# Altium footprint library Global_Footprints.PcbLib: 11 footprints
Each footprint in its own frame and in the unit in brackets; x right, y up, seen from the top. Pads: shape width x height; smd on the part's side, far side on the other; paste and mask are expansions set on the pad; w line width, h text height; cw(c..) or ccw(c..) is an arc to the next point about the centre after c.
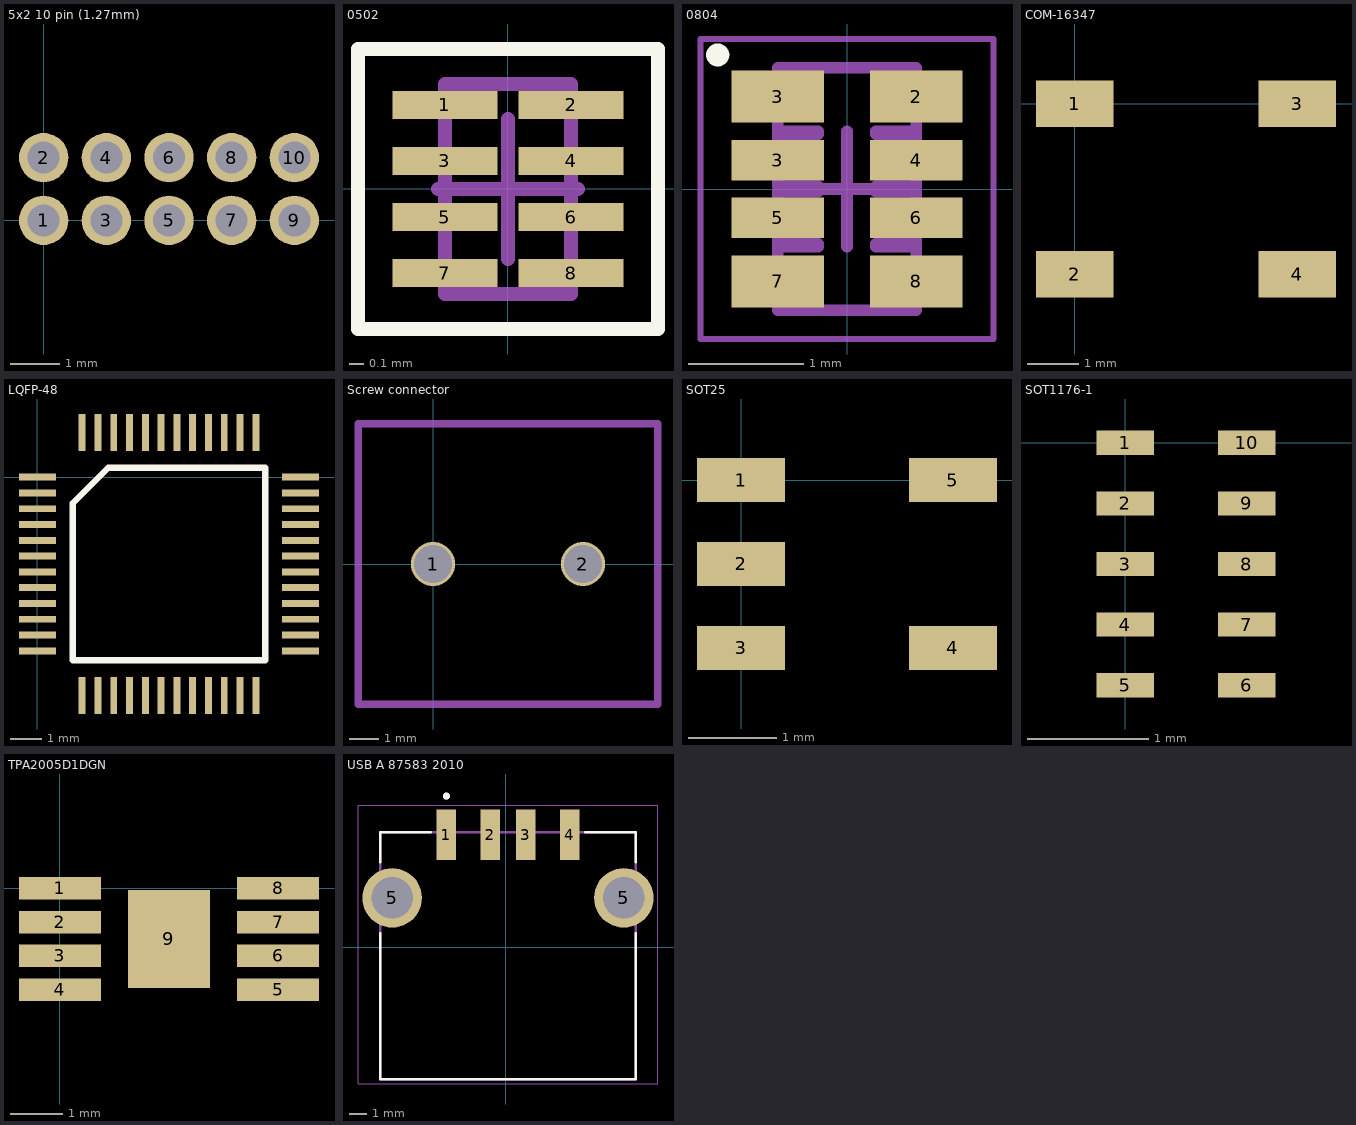
[diagram p0: the footprints below, top view; thin cyan lines are the x and y axes]

## 5x2 10 pin (1.27mm) [mm]
pads (10):
  round 1 hole 0.65 mask+0.05: 1(0,0) 2(0,1.27) 3(1.27,0) 4(1.27,1.27) 5(2.54,0) 6(2.54,1.27) 7(3.81,0) 8(3.81,1.27) 9(5.08,0) 10(5.08,1.27)
3D body "M50-3500542.step": height 4, standoff -2.3, extent -0.635,-1.065 5.715,2.335

## 0502 [mm] "Resistor Array, Flat, 8-Leads, Pitch 0.40mm,  Body 1.40x0.60mm,  IPC Medium Density"
height 0.45
pads (8):
  rect 0.75x0.2 smd mask+0.05: 1(-0.45,0.6) 2(0.45,0.6) 3(-0.45,0.2) 4(0.45,0.2) 5(-0.45,-0.2) 6(0.45,-0.2) 7(-0.45,-0.6) 8(0.45,-0.6)
Top Overlay:
  lines w0.1: -1.07,-1 1.07,-1 1.07,1 -1.07,1 -1.07,-1
Mechanical 13:
  lines w0.1: -0.45,-0.75 0.45,-0.75 0.45,0.75 -0.45,0.75 -0.45,-0.75
Mechanical 15:
  lines w0.05: -1.07,-1 1.07,-1 1.07,1 -1.07,1 -1.07,-1
  lines w0.1: -0.5,0 0.5,0 ; 0,-0.5 0,0.5
3D body "CAF-40P140X60-8N.step": height 0.45, standoff 0, extent -0.4,-0.75 0.4,0.75

## 0804 [mm] "Chip Array, ConvexS, 8-Leads, Pitch 0.50mm,  Body 2.00x1.00mm,  IPC Medium Density"
height 0.45
pads (8):
  rect 0.8x0.45 smd mask+0: 2(0.6,0.8) 3(-0.6,0.8) 7(-0.6,-0.8) 8(0.6,-0.8)
  rect 0.8x0.35 smd mask+0: 3(-0.6,0.25) 4(0.6,0.25) 5(-0.6,-0.25) 6(0.6,-0.25)
Top Overlay:
  circle w0.1: c-1.12,1.162 r0.05
Mechanical 13:
  lines w0.1: -0.6,-1.05 -0.6,-0.5 -0.25,-0.5 -0.25,-0.475 -0.6,-0.475 -0.6,-0.025 -0.25,-0.025 -0.25,0.025 -0.6,0.025 -0.6,0.475 -0.25,0.475 -0.25,0.5 -0.6,0.5 -0.6,1.05 0.6,1.05 0.6,0.5 0.25,0.5 0.25,0.475 0.6,0.475 0.6,0.025 0.25,0.025 0.25,-0.025 0.6,-0.025 0.6,-0.475 0.25,-0.475 0.25,-0.5 0.6,-0.5 0.6,-1.05 -0.6,-1.05
Mechanical 15:
  lines w0.05: -1.27,-1.3 -1.27,1.3 1.27,1.3 1.27,-1.3 -1.27,-1.3
  lines w0.1: -0.5,0 0.5,0 ; 0,-0.5 0,0.5
3D body "CAC-50P200X100-8N.step": height 0.45, standoff 0, extent -0.6,-1.05 0.6,1.05

## COM-16347 [mm]
pads (4):
  rect 1.5x0.9 smd: 1(0,0) 2(0,-3.3) 3(4.3,0) 4(4.3,-3.3)
3D body "COM-16347_SPK.step": height 1.6, standoff 0, extent -0.554,-4.152 4.856,0.852

## LQFP-48 [mm]
pads (48):
  rect 1.168x0.22 smd mask+0.05: 1(0,0) 2(0,-0.5) 3(0,-1) 4(0,-1.5) 5(0,-2) 6(0,-2.5) 7(0,-3) 8(0,-3.5) 9(0,-4) 10(0,-4.5) 11(0,-5) 12(0,-5.5) 25(8.332,-5.5) 26(8.332,-5) 27(8.332,-4.5) 28(8.332,-4) 29(8.332,-3.5) 30(8.332,-3) 31(8.332,-2.5) 32(8.332,-2) 33(8.332,-1.5) 34(8.332,-1) 35(8.332,-0.5) 36(8.332,0)
  rect 0.22x1.168 smd mask+0.05: 13(1.416,-6.916) 14(1.916,-6.916) 15(2.416,-6.916) 16(2.916,-6.916) 17(3.416,-6.916) 18(3.916,-6.916) 19(4.416,-6.916) 20(4.916,-6.916) 21(5.416,-6.916) 22(5.916,-6.916) 23(6.416,-6.916) 24(6.916,-6.916) 37(6.916,1.416) 38(6.416,1.416) 39(5.916,1.416) 40(5.416,1.416) 41(4.916,1.416) 42(4.416,1.416) 43(3.916,1.416) 44(3.416,1.416) 45(2.916,1.416) 46(2.416,1.416) 47(1.916,1.416) 48(1.416,1.416)
Top Overlay:
  lines w0.2: 1.119,-5.797 7.213,-5.797 7.213,0.297 2.238,0.297 1.119,-0.822 1.119,-5.797
3D body "LQFP48_1_STM.step": height 1.6, standoff 0, extent -0.422,-7.352 8.772,1.842

## Screw connector [mm]
pads (2):
  round 1.5 hole 1.3: 1(0,0) 2(5.08,0)
Mechanical 13:
  lines w0.254: -2.54,-4.75 7.62,-4.75 7.62,4.75 -2.54,4.75 -2.54,-4.75
3D body "1888687.step": height 15.15, standoff -3.7, extent -3.09,-4.735 7.89,4.765

## SOT25 [mm]
pads (5):
  rect 1x0.5 smd mask+0.05: 1(0,0) 2(0,-0.95) 3(0,-1.9) 4(2.4,-1.9) 5(2.4,0)
3D body "XC6210B332MR-G.step": height 1.3, standoff 0, extent -0.2,-2.417 2.6,0.483

## SOT1176-1 [mm]
pads (10):
  rect 0.475x0.2 smd mask+0.05: 1(0,0) 2(0,-0.5) 3(0,-1) 4(0,-1.5) 5(0,-2) 6(1,-2) 7(1,-1.5) 8(1,-1) 9(1,-0.5) 10(1,0)
3D body "PUSB3AB4Z.STEP": height 0.5, standoff 0, extent 0,-2.25 1,0.25

## TDFN22 [mm]

## TPA2005D1DGN [mil]
pads (9):
  rect 62x17 smd mask+1.97: 1(0,0) 2(0,-25.59) 3(0,-51.18) 4(0,-76.77) 5(165,-76.77) 6(165,-51.18) 7(165,-25.59) 8(165,0)
  rect 61.81x74.41 smd mask+1.97: 9(82.46,-38.39)
3D body "DGN0008G.stp": height 41.34, standoff -0.79, extent -14,-97.44 178.92,20.67

## USB A 87583 2010 [mm]
pads (6):
  rect 1.12x2.88 smd mask+0.05: 1(-3.373,6.374) 2(-0.873,6.374) 3(1.127,6.374) 4(3.627,6.374)
  round 3.376 hole 2.36 mask+0.05: 5(-6.443,2.794) 5(6.697,2.794)
Top Overlay:
  circle w0.2: c-3.373,8.564 r0.1
  lines w0.127: -7.123,0.786 -7.123,-7.486 7.377,-7.486 7.377,0.786 ; -7.123,4.802 -7.123,6.514 -4.253,6.514 ; 4.507,6.514 7.377,6.514 7.377,4.802
Mechanical 13:
  circle w0.2: c-3.373,8.564 r0.1
  lines w0.127: -7.123,-7.486 -7.123,6.514 7.377,6.514 7.377,-7.486 -7.123,-7.486
Mechanical 15:
  lines w0.05: -8.381,-7.736 8.635,-7.736 8.635,8.064 -8.381,8.064 -8.381,-7.736
3D body "step_temp.STEP": height 7.74, standoff -2.63, extent -7.123,-7.523 7.377,7.36